# Altium footprint library led.PCBLIB: 114 footprints (part 2 of 8)
Each footprint in its own frame and in the unit in brackets; x right, y up, seen from the top. Pads: shape width x height; smd on the part's side, far side on the other; paste and mask are expansions set on the pad; w line width, h text height; cw(c..) or ccw(c..) is an arc to the next point about the centre after c.
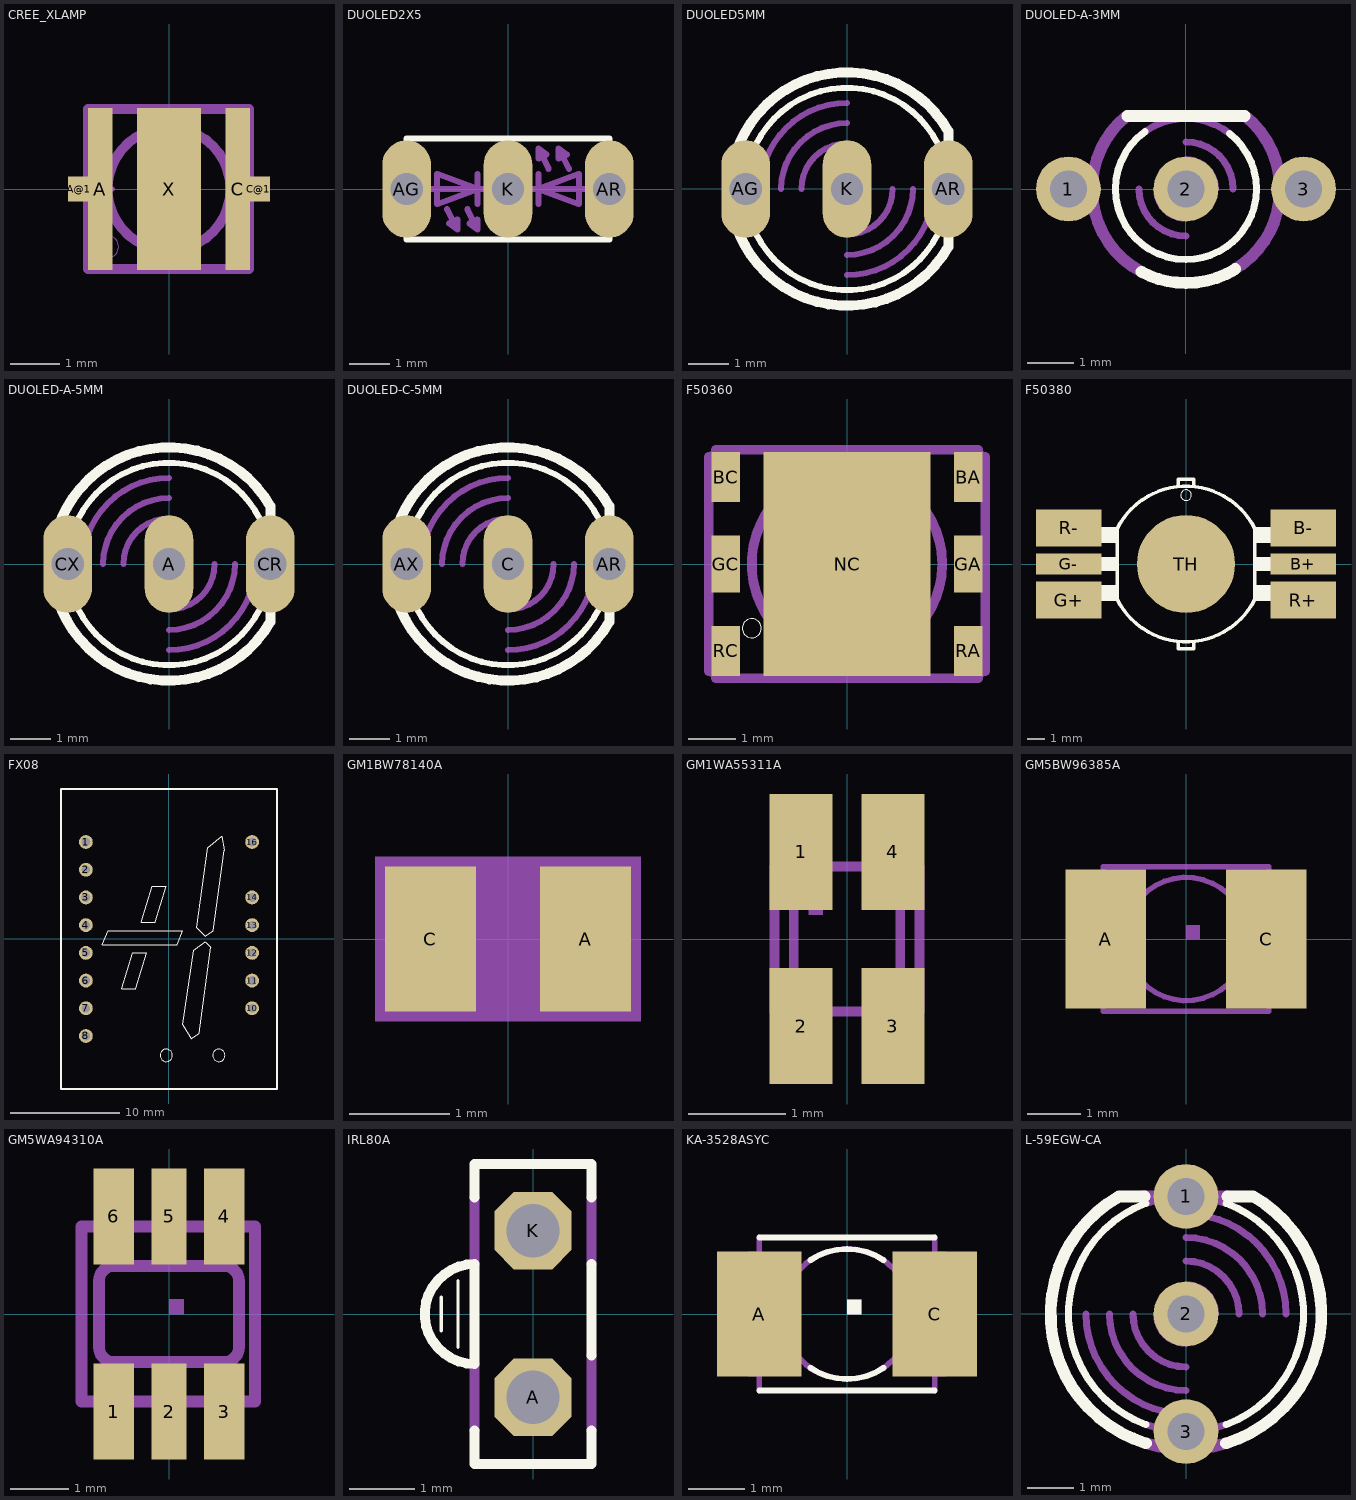
[diagram p1: the footprints below, top view; thin cyan lines are the x and y axes]

## CREE_XLAMP [mm]
pads (5):
  rect 0.5x3.3 smd paste-1.65: A(-1.4,0) C(1.4,0)
  rect 0.45x0.5 smd paste-0.25: A@1(-1.825,0) C@1(1.825,0)
  rect 1.3x3.3 smd paste-1.65: X(0,0)
Top Paste:
  region: 2,0.2 1.575,0.2 1.575,-0.2 2,-0.2
  region: 1.6,1.575 1.2,1.575 1.2,-1.6 1.6,-1.6
  rectangle: -2,-0.2 -1.575,0.2
  rectangle: -1.6,-1.575 -1.2,1.6
  rectangle: -0.6,-1.6 0.6,1.6
Mechanical 4:
  circle w0.203: c0,0 r1.25
  circle w0: c-1.25,-1.175 r0.225
  lines w0.102: -1.525,0 -1.15,0 ; -1.325,-0.175 -1.325,0.175
  lines w0.203: -1.65,-1.625 -1.65,1.625 1.625,1.625 1.625,-1.625 -1.65,-1.625

## DUOLED2X5 [mil]
pads (3):
  oval 48x96 hole 32: AG(-100,0) AR(100,0) K(0,0)
Top Overlay:
  lines w6: -100,-35 -100,-50 100,-50 100,-35 ; -100,35 -100,50 100,50 100,35
Mechanical 4:
  lines w6: -100,-35 -100,35 ; -85,0 -30,0 ; -60,-20 -50,-40 ; -40,-20 -30,-40 ; -30,-15 -30,0 ; -30,15 -30,0 ; 30,-15 30,0 ; 30,15 30,0 ; 40,20 30,40 ; 60,20 50,40 ; 85,0 30,0 ; 100,-35 100,35 ; -50,-40 -58,-34 -50,-30 -50,-40 ; -30,-40 -38,-34 -30,-30 -30,-40 ; -30,0 30,0 ; -30,0 -70,-15 -70,15 -30,0 ; 30,0 70,15 70,-15 30,0 ; 30,40 38,34 30,30 30,40 ; 50,40 58,34 50,30 50,40

## DUOLED5MM [mil]
pads (3):
  oval 48x96 hole 32: AG(-100,0) AR(100,0) K(0,0)
Top Overlay:
  lines w6: -94,-34 ccw(c0,0) 94,-34 ; -94,34 cw(c0,0) 94,34
  lines w10: -110,-34 ccw(c0,0) 100.03,-57.02 ; -109.97,33.99 cw(c0,0) 100,57 100,35 ; 100,-57 100,-35
Mechanical 4:
  lines w6: -94,-34 cw(c0,0) -94,34 ; -85,0 cw(c0,0) 0,85 ; -65,0 cw(c0,0) 0,65 ; -45,0 cw(c0,0) 0,45 ; 0,-85 ccw(c0,0) 85,0 ; 0,-65 ccw(c0,0) 65,0 ; 0,-45 ccw(c0,0) 45,0 ; 94,-34 ccw(c0,0) 94,34
  lines w10: -110,-34 cw(c0,0) -110,34 ; 100,-35 100,37

## DUOLED-A-3MM [mil]
pads (3):
  round 55.12 hole 31.5: 1(-100,0) 2(0,0) 3(100,0)
Top Overlay:
  lines w6: -38.41,-46.09 ccw(c0,0) 0,-60 ccw(c0.01,-0.01) 39.86,-44.85 ; -36,-48 cw(c0,0) -60,0 cw(c0,-0.01) -34.87,48.82 ; 36.83,-47.36 ccw(c0,0) 60,0 ccw(c0,0) 36.83,47.36
  lines w10: -50,62 50,62 ; -37.93,-70.44 ccw(c-0.01,0) 0,-80 ccw(c0,0) 41.93,-68.13
Mechanical 4:
  lines w6: -40,0 ccw(c0,0) 0,-40 ; -39.05,45.56 cw(c-0.01,0) 0,60 cw(c0,0) 38.41,46.09 ; -25,0 ccw(c0,0) 0,-25 ; 0,25 cw(c0,0) 25,0 ; 0,40 cw(c0,0) 40,0
  lines w10: -51.22,61.46 ccw(c0,0.01) -80,0 ccw(c0,-0.01) -37.65,-70.59 ; 39.69,-69.46 ccw(c0.01,-0.01) 80,0 ccw(c0,0) 51.68,61.07

## DUOLED-A-5MM [mil]
pads (3):
  oval 48x96 hole 32: A(0,0) CR(100,0) CX(-100,0)
Top Overlay:
  lines w6: -94,-34 ccw(c0,0) 94,-34 ; -94,34 cw(c0,0) 94,34
  lines w10: -110,-34 ccw(c0,0.01) 100.03,-57.02 ; -109.97,33.99 cw(c0,0.01) 100,57 100,35 ; 100,-57 100,-35
Mechanical 4:
  lines w6: -94,-34 cw(c0,0) -94,34 ; -85,0 cw(c0,0) 0,85 ; -65,0 cw(c0,0) 0,65 ; -45,0 cw(c0,0) 0,45 ; 0,-85 ccw(c0,0) 85,0 ; 0,-65 ccw(c0,0) 65,0 ; 0,-45 ccw(c0,0) 45,0 ; 94,-34 ccw(c0,0) 94,34
  lines w10: -110,-34 cw(c0,0) -110,34 ; 100,-35 100,37

## DUOLED-C-5MM [mil]
pads (3):
  oval 48x96 hole 32: AR(100,0) AX(-100,0) C(0,0)
Top Overlay:
  lines w6: -94,-34 ccw(c0,0) 94,-34 ; -94,34 cw(c0,0) 94,34
  lines w10: -110,-34 ccw(c0,0.01) 100.03,-57.02 ; -109.97,33.99 cw(c0,0.01) 100,57 100,35 ; 100,-57 100,-35
Mechanical 4:
  lines w6: -94,-34 cw(c0,0) -94,34 ; -85,0 cw(c0,0) 0,85 ; -65,0 cw(c0,0) 0,65 ; -45,0 cw(c0,0) 0,45 ; 0,-85 ccw(c0,0) 85,0 ; 0,-65 ccw(c0,0) 65,0 ; 0,-45 ccw(c0,0) 45,0 ; 94,-34 ccw(c0,0) 94,34
  lines w10: -110,-34 cw(c0,0) -110,34 ; 100,-35 100,37

## F50360 [mm]
pads (7):
  rect 0.6x1.05 smd: BA(2.55,1.825) BC(-2.55,1.825) RA(2.55,-1.825) RC(-2.55,-1.825)
  rect 0.6x1.2 smd: GA(2.55,0) GC(-2.55,0)
  rect 3.5x4.7 smd: NC(0,0)
Top Overlay:
  circle w0: c-2,-1.35 r0.2
Mechanical 4:
  circle w0.203: c0,0 r2
  region: -1.25,1.25 -1.25,1 -1,1 -1,1.25
  region: -0.5,1.25 -0.5,1 -0.25,1 -0.25,1.25
  region: -0.5,-1 -0.5,-1.25 -0.25,-1.25 -0.25,-1
  region: 0.25,-0.25 0.25,-1.25 1.25,-1.25 1.25,-0.25
  region: 0.25,1.25 0.25,0.25 1.25,0.25 1.25,1.25
  region: -1.25,0.5 -1.25,-0.5 -0.25,-0.5 -0.25,0.5
  lines w0.203: -2.9,-2.25 cw(c-2.9,-2.4) -2.75,-2.4 2.75,-2.4 cw(c2.9,-2.4) 2.9,-2.25 2.9,2.25 cw(c2.9,2.4) 2.75,2.4 -2.75,2.4 cw(c-2.9,2.4) -2.9,2.25 -2.9,-2.25

## F50380 [mm]
pads (7):
  rect 3.7x1.2 smd: B+(6.65,0) G-(-6.65,0)
  rect 3.7x2.1 smd: B-(6.65,2.05) G+(-6.65,-2.05) R+(6.65,-2.05) R-(-6.65,2.05)
  rrect100% 5.55x5.55 smd: TH(0,0)
Top Overlay:
  circle w0: c0,3.9 r0.301
  rectangle: -5.4,-0.4 -3.975,0.4
  rectangle: -5.4,1.2 -3.925,2.1
  rectangle: -5.4,-2.1 -3.975,-1.2
  region: 5.4,0.4 3.975,0.4 3.975,-0.4 5.4,-0.4
  region: 5.4,-1.2 3.925,-1.2 3.925,-2.1 5.4,-2.1
  region: 5.4,2.1 3.975,2.1 3.975,1.2 5.4,1.2
  lines w0.203: -0.45,-4.5 -0.45,-4.8 0.45,-4.8 0.45,-4.475 ; -0.45,4.475 -0.45,4.8 0.45,4.8 0.45,4.5 ; -3.9,-2.025 ccw(c0,-0.012) 3.9,-2.025 3.9,2.025 ccw(c0,0.01) -3.9,2.025 -3.9,-2.025
Mechanical 4:
  rectangle: -7.25,-0.4 -5.7,0.4
  rectangle: -7.25,-2.7 -5.7,-1.2
  rectangle: -7.25,1.2 -5.7,2.7
  rectangle: -5.7,1.2 -5.4,2.1
  rectangle: -5.7,-0.4 -5.4,0.4
  rectangle: -5.7,-2.1 -5.4,-1.2
  region: 7.25,0.4 5.7,0.4 5.7,-0.4 7.25,-0.4
  region: 7.25,2.7 5.7,2.7 5.7,1.2 7.25,1.2
  region: 7.25,-1.2 5.7,-1.2 5.7,-2.7 7.25,-2.7
  region: 5.7,-1.2 5.4,-1.2 5.4,-2.1 5.7,-2.1
  region: 5.7,0.4 5.4,0.4 5.4,-0.4 5.7,-0.4
  region: 5.7,2.1 5.4,2.1 5.4,1.2 5.7,1.2

## FX08 [mil]
pads (14):
  round 50 hole 31.5: 1(-300,350) 2(-300,250) 3(-300,150) 4(-300,50) 5(-300,-50) 6(-300,-150) 7(-300,-250) 8(-300,-350) 10(300,-250) 11(300,-150) 12(300,-50) 13(300,50) 14(300,150) 16(300,350)
Top Overlay:
  circle w3.94: c180,-420 r22.36
  circle w3.94: c-10,-420 r22.36
  lines w3.94: -240,-20 -220,30 50,30 30,-20 -240,-20 ; -170,-180 -130,-50 -80,-50 -120,-180 -170,-180 ; -100,60 -60,190 -10,190 -50,60 -100,60 ; 50,-310 80,-360 110,-340 150,-30 130,-10 90,-40 50,-310 ; 100,40 140,330 190,370 200,320 160,30 130,10 100,40
  lines w8: -389.76,-541.34 -389.76,541.34 389.76,541.34 389.76,-541.34 -389.76,-541.34

## GM1BW78140A [mil]
pads (2):
  rect 35.43x56.69 smd paste-28.34 mask-28.34: A(30.32,0) C(-30.32,0)
Top Paste:
  rectangle: 13.78,-26.57 46.26,26.57
  region: 0,0 10,0 10,10 0,10
Top Solder:
  rectangle: 10.83,-30.51 50.2,30.51
  region: 0,0 10,0 10,10 0,10
Mechanical 4:
  rectangle: -51.97,-32.28 51.97,32.28

## GM1WA55311A [mm]
pads (4):
  rect 0.65x1.2 smd paste-0.6 mask-0.6: 1(-0.475,0.9) 2(-0.475,-0.9) 3(0.475,-0.9) 4(0.475,0.9)
Top Paste:
  region: -0.175,-0.325 -0.775,-0.325 -0.775,-1.45 -0.175,-1.45
  region: 0.775,-0.325 0.175,-0.325 0.175,-1.45 0.775,-1.45
  rectangle: 0.175,0.325 0.775,1.45
  rectangle: -0.775,0.325 -0.175,1.45
Top Solder:
  rectangle: 0.1,-1.55 0.85,-0.25
  rectangle: -0.85,-1.55 -0.1,-0.25
  rectangle: 0.1,0.25 0.85,1.55
  rectangle: -0.85,0.25 -0.1,1.55
Mechanical 4:
  rectangle: -0.4,0.25 -0.25,0.65
  lines w0.102: -0.55,-0.7 -0.55,0.7 ; 0.55,-0.7 0.55,0.7 ; -0.75,-0.75 -0.75,0.75 0.75,0.75 0.75,-0.75 -0.75,-0.75

## GM5BW96385A [mil]
pads (2):
  rect 59.06x102.36 smd: A(-59.06,0) C(59.06,0)
Mechanical 4:
  circle w4: c0,0 r45.28
  region: 68.9,43.31 62.01,43.31 62.01,-43.31 68.9,-43.31
  rectangle: -68.9,-43.31 -62.01,43.31
  region: 0,0 10,0 10,10 0,10
  lines w4: -61.02,-53.15 -61.02,53.15 61.02,53.15 61.02,-53.15 -61.02,-53.15

## GM5WA94310A [mm]
pads (6):
  rect 0.7x1.65 smd mask-0.825: 1(-0.95,-1.675) 3(0.95,-1.675) 4(0.95,1.675) 6(-0.95,1.675)
  rect 0.6x1.65 smd mask-0.825: 2(0,-1.675) 5(0,1.675)
Top Solder:
  region: -0.525,2.575 -1.375,2.575 -1.375,0.775 -0.525,0.775
  region: 0.375,2.575 -0.375,2.575 -0.375,0.775 0.375,0.775
  region: 1.375,2.575 0.525,2.575 0.525,0.775 1.375,0.775
  rectangle: 0.525,-2.575 1.375,-0.775
  rectangle: -0.375,-2.575 0.375,-0.775
  rectangle: -1.375,-2.575 -0.525,-0.775
Mechanical 4:
  region: -0.7,-1.575 -1.2,-1.575 -1.2,-1.75 -0.7,-1.75
  region: 1.2,-1.575 0.7,-1.575 0.7,-1.75 1.2,-1.75
  region: 0.25,-1.575 -0.25,-1.575 -0.25,-1.75 0.25,-1.75
  rectangle: 0.7,1.575 1.2,1.75
  rectangle: -1.2,1.575 -0.7,1.75
  rectangle: -0.25,1.575 0.25,1.75
  region: 0,0 0.254,0 0.254,0.254 0,0.254
  lines w0.203: -1.5,-1.5 -1.5,1.5 1.475,1.5 1.475,-1.5 -1.5,-1.5 ; -1.2,-0.575 ccw(c-0.95,-0.575) -0.95,-0.825 0.95,-0.825 ccw(c0.95,-0.575) 1.2,-0.575 1.2,0.575 ccw(c0.95,0.575) 0.95,0.825 -0.95,0.825 ccw(c-0.95,0.575) -1.2,0.575 -1.2,-0.575

## IRL80A [mil]
pads (2):
  oct 46.48x46.48 hole 32: A(0,-50) K(0,50)
Top Overlay:
  lines w2: -55,-10 -55,10 ; -45,-20 -45,20
  lines w6: -35,-70 -35,-90 35,-90 35,-70 ; -35,70 -35,90 35,90 35,70 ; 35,-25 35,30 ; -35,-30 cw(c-35,0) -35,30 -35,-30
Mechanical 4:
  lines w6: -35,-70 -35,-30 ; -35,30 -35,70 ; 35,-70 35,-25 ; 35,30 35,70

## KA-3528ASYC [mil]
pads (2):
  rect 59.06x86.61 smd: A(-61.02,0) C(61.02,0)
Top Overlay:
  region: 0,0 10,0 10,10 0,10
  lines w4: -61.02,-53.15 61.02,-53.15 ; -61.02,53.15 61.02,53.15 ; -25.59,-37.4 ccw(c0,0.25) 25.59,-37.4 ; -25.59,37.4 cw(c0,-0.25) 25.59,37.4
Mechanical 4:
  circle w4: c0,0 r45.28
  region: 68.9,43.31 62.99,43.31 62.99,23.62 68.9,23.62
  region: 68.9,-23.62 62.99,-23.62 62.99,-43.31 68.9,-43.31
  rectangle: -68.9,-43.31 -62.99,-23.62
  rectangle: -68.9,23.62 -62.99,43.31
  region: 0,0 10,0 10,10 0,10
  lines w4: -61.02,-53.15 -61.02,53.15 ; 61.02,-53.15 61.02,53.15

## L-59EGW-CA [mil]
pads (3):
  round 55.12 hole 31.5: 1(0,100) 2(0,0) 3(0,-100)
Top Overlay:
  lines w6: -34,-94 cw(c0,0) -34,94 ; 34,-94 ccw(c0,0) 34,94
  lines w10: -35,100 -57,100 ccw(c-0.01,0) -33.99,-109.97 ; 34,-110 ccw(c-0.01,0) 57.02,100.03 ; 35,100 57,100
Mechanical 4:
  lines w6: -85,0 ccw(c0,0) 0,-85 ; -65,0 ccw(c0,0) 0,-65 ; -45,0 ccw(c0,0) 0,-45 ; -34,-94 ccw(c0,0) 34,-94 ; -34,94 cw(c0,0) 34,94 ; -25,0 ccw(c0,0) 0,-25 ; 0,25 cw(c0,0) 25,0 ; 0,45 cw(c0,0) 45,0 ; 0,65 cw(c0,0) 65,0 ; 0,85 cw(c0,0) 85,0
  lines w10: -37,100 35,100 ; -34,-110 ccw(c0,0) 34,-110